# EAGLE library part GB_LINK_CONNECTOR (library kalshagar)
Gameboy Link connector (male), to be used with cables. (not direct connect since GB has male connector too)
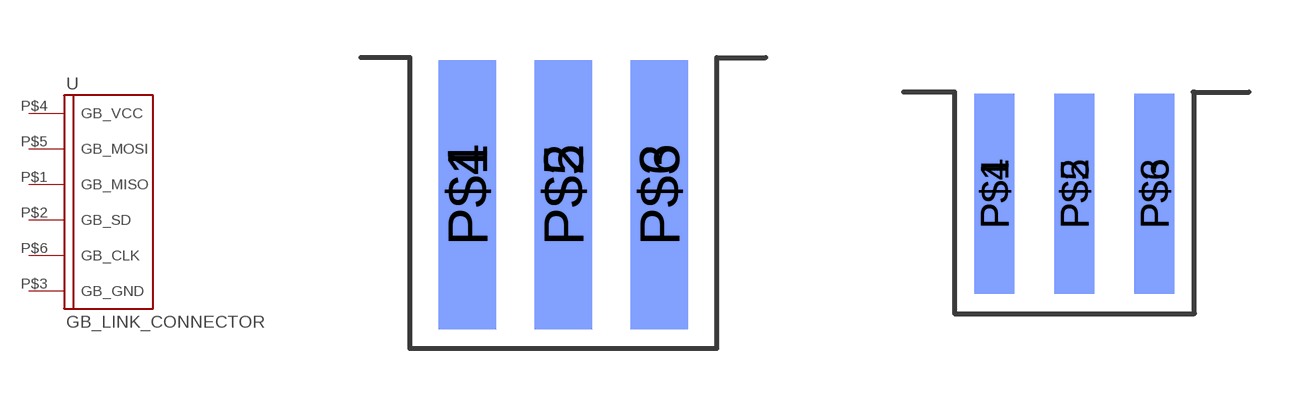
[diagram p10: symbol with the pads of GB_LINK_CONNECTOR_CLASSIC; footprints GB_LINK_CONNECTOR_CLASSIC, GB_LINK_CONNECTOR_COLOR]

Designator prefix -

## GB_LINK_CONNECTORGB_LINK_ORIGINAL  [GB_LINK_CONNECTOR_CLASSIC]
P$1  GB_MISO
P$2  GB_SD
P$3  GB_GND
P$4  GB_VCC
P$5  GB_MOSI
P$6  GB_CLK

## GB_LINK_CONNECTORGB_LINK_GBA_COLOR  [GB_LINK_CONNECTOR_COLOR]
Pads as for GB_LINK_CONNECTOR_CLASSIC

## Footprint GB_LINK_CONNECTOR_CLASSIC (pad centres in mm)
For Gameboy ORIGINAL (the brick) This 6mm wide connector must be printed on 1.6mm thick PCB to work. BEWARE: some/all (?) cables do NOT route VCC nor SD. You can do without them but forget being powered by the GB then...
smd 1.5 x 7: P$1 1.5,1; P$2 4,1; P$3 6.5,1
smd 1.5 x 7 bottom: P$4 1.5,1; P$5 4,1; P$6 6.5,1

## Footprint GB_LINK_CONNECTOR_COLOR (pad centres in mm)
For Gameboy COLOR/GBA This 6mm wide connector must be printed on 1.6mm thick PCB to work. BEWARE: some/all (?) cables do NOT route VCC nor SD. You can do without them but forget being powered by the GB then...
smd 1 x 5: P$1 1,0; P$2 3,0; P$3 5,0
smd 1 x 5 bottom: P$4 1,0; P$5 3,0; P$6 5,0